# EAGLE library part AQW614 (library AQW614)
Panasonic 0.1 A Solid State Relay, PCB Mount, MOSFET, 400 V Maximum Load Source: Datasheet <https://industry.panasonic.com/ac/cdn/e/control/relay/photomos/catalog/semi_eng_gu1a1b_aqw61.pdf>
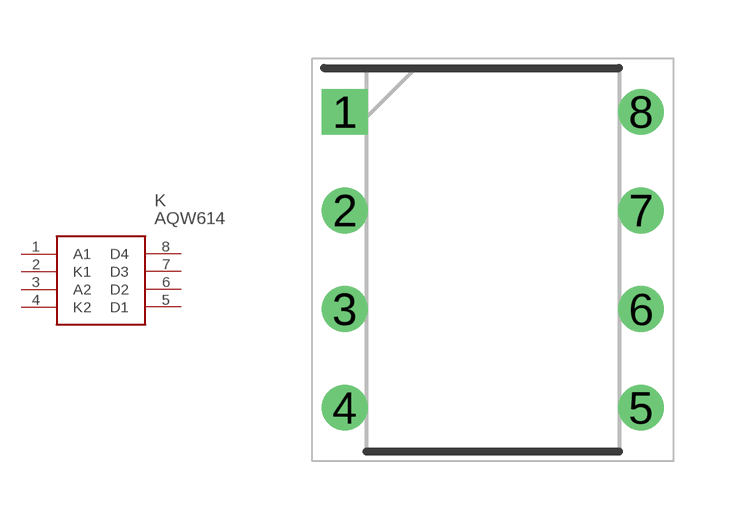
[diagram p0: symbol with the pads of DIP762W47P254L978H410Q8N; footprint DIP762W47P254L978H410Q8N]

Designator prefix K

## AQW614 (Description: Panasonic 0.1 A Solid State Relay, PCB Mount, MOSFET, 400 V Maximum Load; Height: 4.1mm; Manufacturer_Name: Panasonic; Manufacturer_Part_Number: AQW614; Mouser_Part_Number: 769-AQW614; Mouser_Price-Stock: https://www.mouser.co.uk/ProductDetail/Panasonic/AQW614?qs=sEN%2FkO1EG6aIbQazZO7uDw%3D%3D)  [DIP762W47P254L978H410Q8N]
1  A1
2  K1
3  A2
4  K2
5  D1
6  D2
7  D3
8  D4

## Footprint DIP762W47P254L978H410Q8N (pad centres in mm)
DIP-8-ren2
drill 0.67 pad 1.07 square: 1 -3.81,3.81
drill 0.67 pad 1.07: 2 -3.81,1.27; 3 -3.81,-1.27; 4 -3.81,-3.81; 5 3.81,-3.81; 6 3.81,-1.27; 7 3.81,1.27; 8 3.81,3.81